# EAGLE library part 71-6DP-1DS (library switch-grayhill)
Rotary Switch Grayhill 71 Series, 6 Pos, 2 Pole, 1 Deck
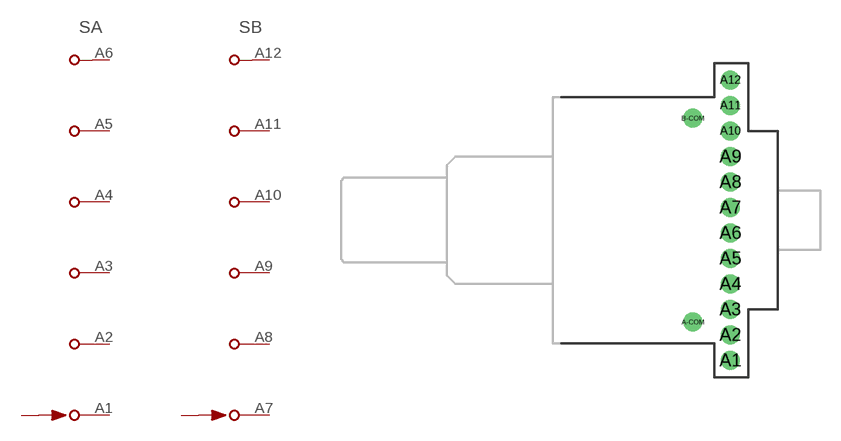
[diagram p1: symbol with the pads of 71-12-1D-2C; footprint 71-12-1D-2C]

Designator prefix S; gates A=71-6-PS B=71-6-PS

## 71-6DP-1DS  [71-12-1D-2C]
A1  A:1  pas
A2  A:2  pas
A3  A:3  pas
A4  A:4  pas
A5  A:5  pas
A6  A:6  pas
A7  B:1  pas
A8  B:2  pas
A9  B:3  pas
A10  B:4  pas
A11  B:5  pas
A12  B:6  pas
A-COM  A:COM  pas
B-COM  B:COM  pas

## Footprint 71-12-1D-2C (pad centres in mm)
Grayhill 71 Series
drill 0.813 pad 1.422: A1 2.794,-10.477; A2 2.794,-8.572; A3 2.794,-6.668; A4 2.794,-4.763; A5 2.794,-2.857; A6 2.794,-0.953; A7 2.794,0.953; A8 2.794,2.857; A9 2.794,4.763; A10 2.794,6.668; A11 2.794,8.572; A12 2.794,10.477; A-COM 0,-7.62; B-COM 0,7.62